# EAGLE library part 61201622121 (library Wuerth_Elektronik_eiCan_05_Box_Header_IDC_Connectors_1_2)
WR-BHD 2.54mm Male Angled Box Header With Lever, 16 Pins
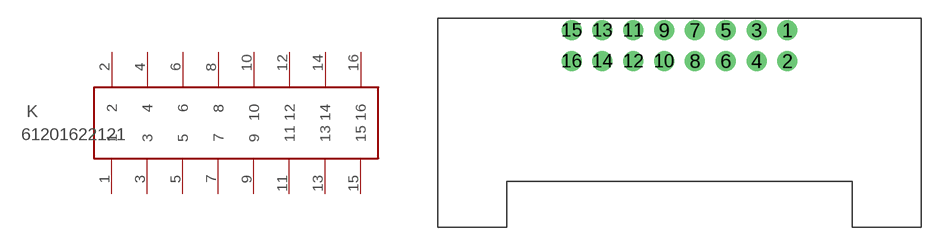
[diagram p145: symbol with the pads of 61201622121; footprint 61201622121]

Designator prefix K

## 61201622121  [61201622121]
1  1  pas
2  2  pas
3  3  pas
4  4  pas
5  5  pas
6  6  pas
7  7  pas
8  8  pas
9  9  pas
10  10  pas
11  11  pas
12  12  pas
13  13  pas
14  14  pas
15  15  pas
16  16  pas

## Footprint 61201622121 (pad centres in mm)
WR-BHD 2.54mm Male Angled Box Header With Lever, 16 Pins
drill 1.1: 1 5.08,1.27; 2 5.08,-1.27; 3 2.54,1.27; 4 2.54,-1.27; 5 0,1.27; 6 0,-1.27; 7 -2.54,1.27; 8 -2.54,-1.27; 9 -5.08,1.27; 10 -5.08,-1.27; 11 -7.62,1.27; 12 -7.62,-1.27; 13 -10.16,1.27; 14 -10.16,-1.27; 15 -12.7,1.27; 16 -12.7,-1.27